# Altium footprint library IQXO-984.PcbLib: 1 footprints
Each footprint in its own frame and in the unit in brackets; x right, y up, seen from the top. Pads: shape width x height; smd on the part's side, far side on the other; paste and mask are expansions set on the pad; w line width, h text height; cw(c..) or ccw(c..) is an arc to the next point about the centre after c.
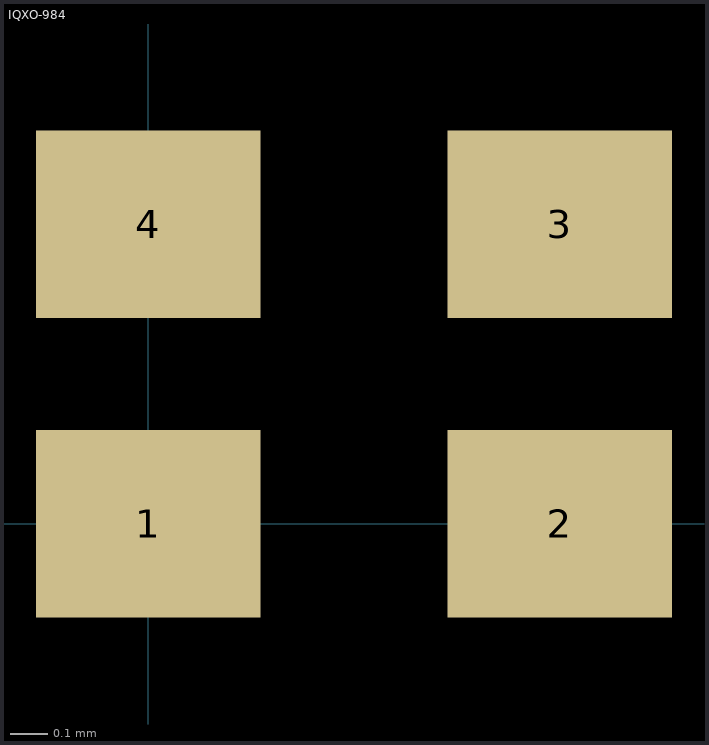
[diagram p0: the footprint, top view; thin cyan lines are the x and y axes]

## IQXO-984 [mm]
pads (4):
  rect 0.6x0.5 smd: 1(0,0) 2(1.1,0) 3(1.1,0.8) 4(0,0.8)
3D body: height 0.81, standoff 0, extent -0.099,-0.1 0.1,0.1
3D body: height 0.8, standoff 0.7, extent -0.2,-0.2 1.3,1
3D body: height 0.7, standoff 0, extent -0.3,-0.254 1.397,1.05